# Altium footprint library volume_knob.PcbLib: 19 footprints (part 1 of 2)
Each footprint in its own frame and in the unit in brackets; x right, y up, seen from the top. Pads: shape width x height; smd on the part's side, far side on the other; paste and mask are expansions set on the pad; w line width, h text height; cw(c..) or ccw(c..) is an arc to the next point about the centre after c.
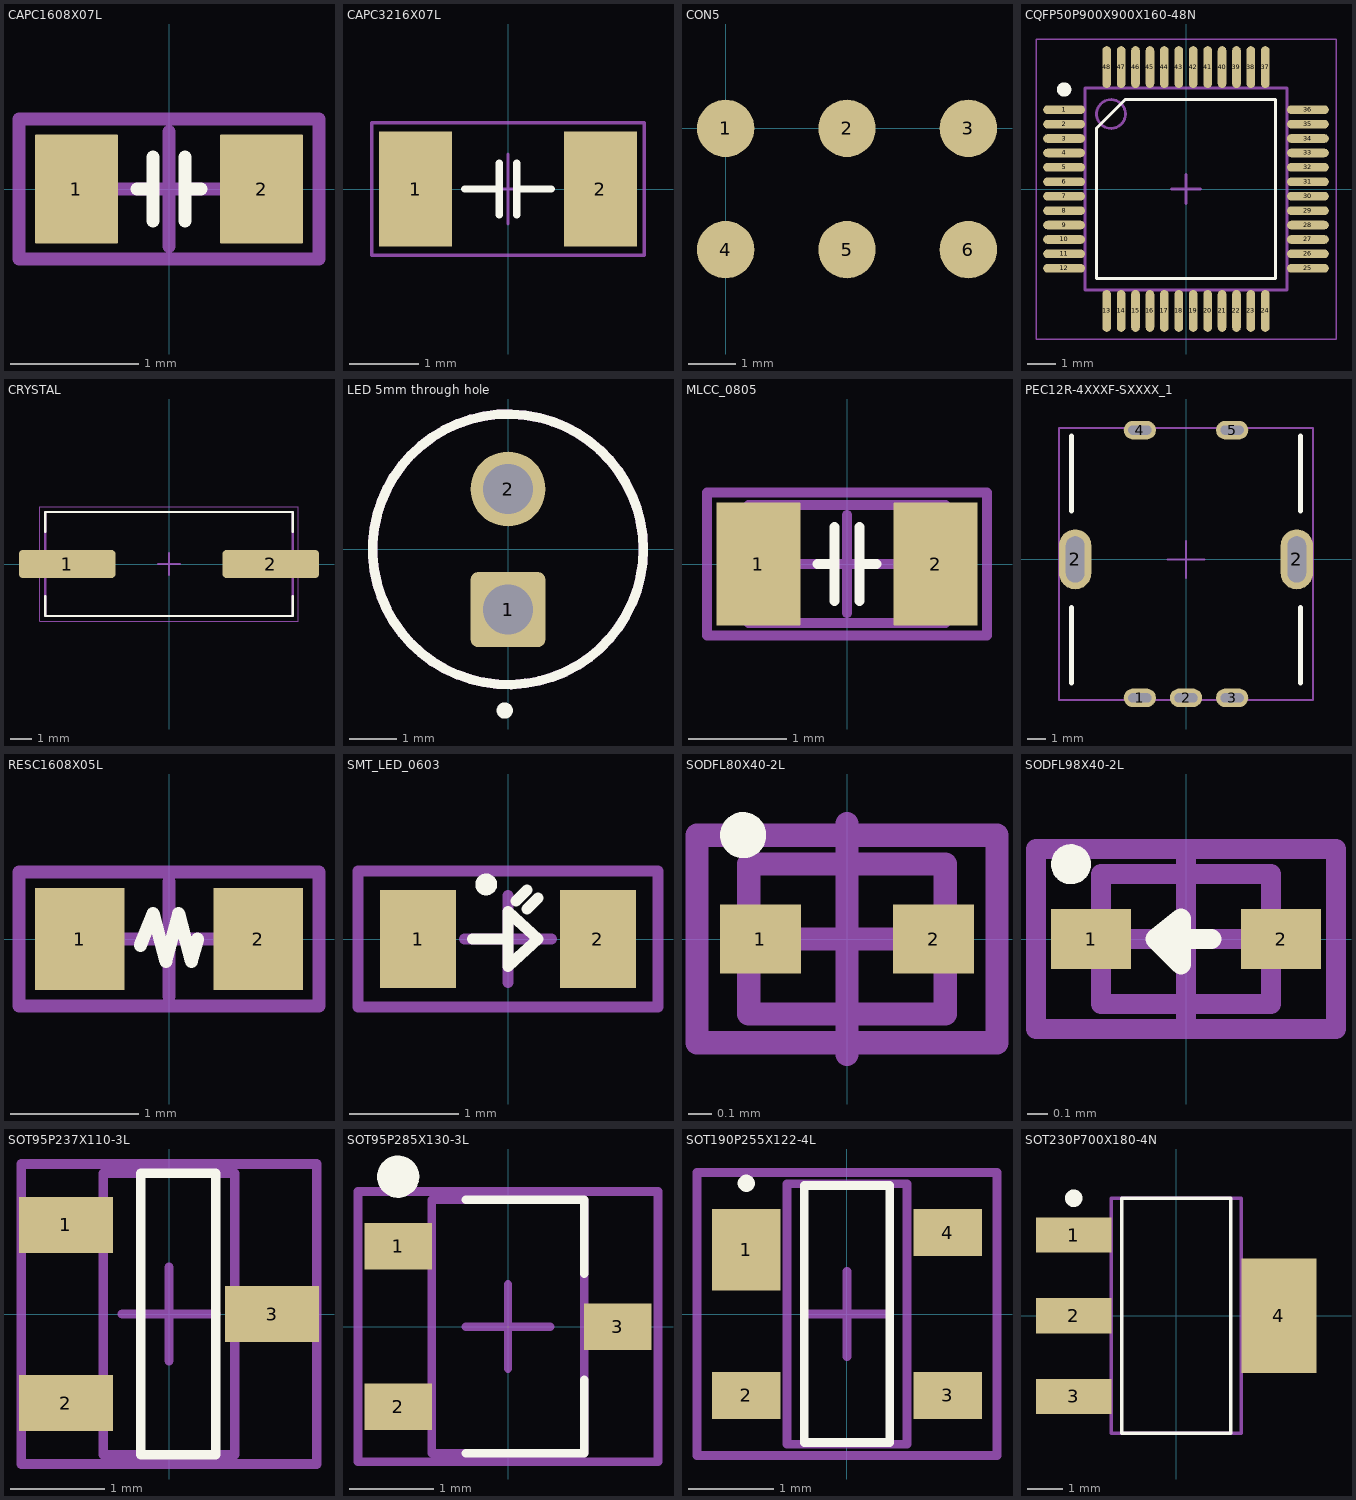
[diagram p0: the footprints below, top view; thin cyan lines are the x and y axes]

## CAPC1608X07L [mm] "MLCC 0603"
height 0.7
pads (2):
  rrect1% 0.65x0.85 smd: 1(-0.725,0) 2(0.725,0)
Top Overlay:
  lines w0.102: -0.25,0 -0.125,0 ; -0.125,-0.25 -0.125,0.25 ; 0.125,-0.25 0.125,0.25 ; 0.125,0 0.25,0
Top Courtyard:
  lines w0.102: -0.45,0 0.45,0 ; 0,-0.45 0,0.45 ; -1.175,-0.55 1.175,-0.55 1.175,0.55 -1.175,0.55 -1.175,-0.55
Top Assembly:
  lines w0.102: -1.175,-0.55 1.175,-0.55 1.175,0.55 -1.175,0.55 -1.175,-0.55
3D body "CAPC1608X07L.step": height 0.7, standoff 0, extent -0.85,-0.45 0.85,0.45

## CAPC3216X07L [mm] "MLCC 1206"
height 0.7
pads (2):
  rrect1% 1.05x1.65 smd: 1(-1.325,0) 2(1.325,0)
Top Overlay:
  lines w0.102: -0.625,0 -0.125,0 ; -0.125,-0.375 -0.125,0.375 ; 0.125,-0.375 0.125,0.375 ; 0.125,0 0.625,0
Top Courtyard:
  lines w0.05: -1.95,-0.95 -1.95,0.95 1.95,0.95 1.95,-0.95 -1.95,-0.95
Top Assembly:
  lines w0.05: -0.5,0 0.5,0 ; 0,-0.5 0,0.5 ; -1.95,-0.95 -1.95,0.95 1.95,0.95 1.95,-0.95 -1.95,-0.95
3D body "CAPC3216X07L.step": height 0.7, standoff 0, extent -1.65,-0.85 1.65,0.85

## CON5 [mm] "4 Pin 2.54 header"
pads (6):
  round 1.2 smd: 1(0,0) 2(2.54,0) 3(5.08,0) 4(0,-2.54) 5(2.54,-2.54) 6(5.08,-2.54)

## CQFP50P900X900X160-48N [mm] "QFP48"
height 1.6
pads (48):
  oval 1.45x0.3 smd mask+0.04: 1(-4.225,2.75) 2(-4.225,2.25) 3(-4.225,1.75) 4(-4.225,1.25) 5(-4.225,0.75) 6(-4.225,0.25) 7(-4.225,-0.25) 8(-4.225,-0.75) 9(-4.225,-1.25) 10(-4.225,-1.75) 11(-4.225,-2.25) 12(-4.225,-2.75) 25(4.225,-2.75) 26(4.225,-2.25) 27(4.225,-1.75) 28(4.225,-1.25) 29(4.225,-0.75) 30(4.225,-0.25) 31(4.225,0.25) 32(4.225,0.75) 33(4.225,1.25) 34(4.225,1.75) 35(4.225,2.25) 36(4.225,2.75)
  oval 0.3x1.45 smd mask+0.04: 13(-2.75,-4.225) 14(-2.25,-4.225) 15(-1.75,-4.225) 16(-1.25,-4.225) 17(-0.75,-4.225) 18(-0.25,-4.225) 19(0.25,-4.225) 20(0.75,-4.225) 21(1.25,-4.225) 22(1.75,-4.225) 23(2.25,-4.225) 24(2.75,-4.225) 37(2.75,4.225) 38(2.25,4.225) 39(1.75,4.225) 40(1.25,4.225) 41(0.75,4.225) 42(0.25,4.225) 43(-0.25,4.225) 44(-0.75,4.225) 45(-1.25,4.225) 46(-1.75,4.225) 47(-2.25,4.225) 48(-2.75,4.225)
Top Overlay:
  circle w0.25: c-4.225,3.45 r0.125
  lines w0.102: -3.1,-3.1 -3.1,2.107 -2.107,3.1 3.1,3.1 3.1,-3.1 -3.1,-3.1
Top Courtyard:
  circle w0.1: c-2.6,2.6 r0.5
  lines w0.1: -3.5,-3.5 -3.5,3.5 3.5,3.5 3.5,-3.5 -3.5,-3.5
Top Assembly:
  lines w0.05: -5.2,-5.2 -5.2,5.2 5.2,5.2 5.2,-5.2 -5.2,-5.2
  lines w0.1: -0.5,0 0.5,0 ; 0,-0.5 0,0.5
3D body "CQFP50P900X900X160-48N.step": height 1.45, standoff 0, extent -4.6,-4.6 4.6,4.6

## CRYSTAL [mm] "SMT Crystal 4.70x11.40mm Pitch 8.80mm"
height 4.2
pads (2):
  rrect25% 4.5x1.3 smd: 1(-4.75,0) 2(4.75,0)
Top Overlay:
  lines w0.102: -5.775,-1.5 -5.775,-2.425 5.775,-2.425 5.775,-1.5 ; -5.775,1.5 -5.775,2.425 5.775,2.425 5.775,1.5
Top Courtyard:
  lines w0.1: -5.775,-2.425 5.775,-2.425 5.775,2.425 -5.775,2.425 -5.775,-2.425
Top Assembly:
  lines w0.05: -6.025,-2.675 6.025,-2.675 6.025,2.675 -6.025,2.675 -6.025,-2.675
  lines w0.1: -0.5,0 0.5,0 ; 0,-0.5 0,0.5
3D body "HC49US SMT Crystal.STEP": height 4.2, standoff 0, extent -6.35,-2.35 6.35,2.35

## LED 5mm through hole [mm] "5MM through hole LED"
pads (2):
  rrect20% 1.58x1.58 hole 1.05: 1(0,-1.27)
  round 1.58 hole 1.05: 2(0,1.27)
Top Overlay:
  circle w0.2: c-0.071,-3.397 r0.072
  circle w0.2: c0,0 r2.85
Mechanical 15:
  circle w0.2: c0,0 r2.85
3D body "LED 5mm.step": height 8.9, standoff -3.59, extent -3,-2.5 3,3

## MLCC_0805 [mm] "MLCC 0805"
height 0.8
pads (2):
  rrect1% 0.85x1.25 smd: 1(-0.9,0) 2(0.9,0)
Top Overlay:
  lines w0.102: -0.3,0 -0.125,0 ; -0.125,-0.375 -0.125,0.375 ; 0.125,-0.375 0.125,0.375 ; 0.125,0 0.3,0
Top Courtyard:
  lines w0.1: -0.5,0 0.5,0 ; 0,-0.5 0,0.5
  lines w0.102: -1.425,-0.725 1.425,-0.725 1.425,0.725 -1.425,0.725 -1.425,-0.725
Top Assembly:
  lines w0.102: -1,-0.6 1,-0.6 1,0.6 -1,0.6 -1,-0.6
3D body "MLCC_0805.step": height 0.8, standoff 0, extent -1,-0.6 1,0.6

## PEC12R-4XXXF-SXXXX_1 [mm] "Rotary encoder"
pads (7):
  oval 1.75x1 hole 0.5 slot 1.25 at 0 deg: 1(-2.5,-7.5) 2(0,-7.5) 3(2.5,-7.5) 4(-2.5,7) 5(2.5,7)
  rrect100% 1.75x3.25 hole 1 slot 2.5 at 90 deg: 2(-6,0)
  oval 1.75x3.25 hole 1 slot 2.5 at 90 deg: 2(6,0)
Top Overlay:
  lines w0.254: -6.2,-6.7 -6.2,-2.6 ; -6.2,2.6 -6.2,6.7 ; 6.2,-6.7 6.2,-2.6 ; 6.2,2.6 6.2,6.7
Top Courtyard:
  lines w0.102: -6.875,-7.625 -6.875,7.125 6.875,7.125 6.875,-7.625 -6.875,-7.625
Top Assembly:
  lines w0.102: -1,0 1,0 ; 0,-1 0,1 ; -6.875,-7.625 6.875,-7.625 6.875,7.125 -6.875,7.125 -6.875,-7.625
3D body "pec11r-4220k_l13-8_w12-4_h26-5.stp": height 26.5, standoff -3.7, extent -6.924,-7.675 6.924,7.175

## RESC1608X05L [mm] "0603 SMT Resistor"
height 0.5
pads (2):
  rrect1% 0.7x0.8 smd: 1(-0.7,0) 2(0.7,0)
Top Overlay:
  lines w0.102: -0.225,-0.05 -0.125,0.2 -0.025,-0.175 0.075,0.2 0.175,-0.175 0.225,0
Top Courtyard:
  lines w0.102: -0.45,0 0.45,0 ; 0,-0.45 0,0.45 ; -1.175,-0.525 -1.175,0.525 1.175,0.525 1.175,-0.525 -1.175,-0.525
Top Assembly:
  lines w0.102: -1.175,-0.525 1.175,-0.525 1.175,0.525 -1.175,0.525 -1.175,-0.525
3D body "RESC1608X05L.step": height 0.5, standoff 0, extent -0.85,-0.45 0.85,0.45

## SMT_LED_0603 [mm] "SMT LED 0603"
height 2
pads (2):
  rrect1% 0.7x0.9 smd: 1(-0.825,0) 2(0.825,0)
Top Overlay:
  circle w0.1: c-0.2,0.5 r0.05
  lines w0.102: -0.325,0 0,0 ; 0.075,0.35 0.175,0.45 ; 0.175,0.275 0.275,0.375 ; 0,0 0,-0.25 0.275,0 0,0.25 0,0
Top Courtyard:
  lines w0.102: -1.375,-0.625 1.375,-0.625 1.375,0.625 -1.375,0.625 -1.375,-0.625
Top Assembly:
  lines w0.102: -0.4,0 0.4,0 ; 0,-0.4 0,0.4 ; -1.375,-0.625 1.375,-0.625 1.375,0.625 -1.375,0.625 -1.375,-0.625
3D body "scaled.step": height 0.26, standoff 0.01, extent -0.767,-0.379 0.739,0.377

## SODFL80X40-2L [mm] "SODFL, 2-Leads, Body 0.60x0.80mm, IPC High Density"
height 0.4
pads (2):
  rrect1% 0.35x0.3 smd mask+0.05: 1(-0.375,0) 2(0.375,0)
Top Overlay:
  circle w0.1: c-0.45,0.45 r0.05
Top Courtyard:
  lines w0.1: -0.5,0 0.5,0 ; 0,-0.5 0,0.5
  lines w0.102: -0.65,-0.45 -0.65,0.45 0.65,0.45 0.65,-0.45 -0.65,-0.45
Top Assembly:
  lines w0.102: -0.425,-0.325 -0.425,0.325 0.425,0.325 0.425,-0.325 -0.425,-0.325
3D body "SODFL80X40-2L.step": height 0.4, standoff 0, extent -0.425,-0.325 0.425,0.325

## SODFL98X40-2L [mm] "SODFL, 0.6x1.0mm"
height 0.4
pads (2):
  rrect1% 0.4x0.3 smd: 1(-0.475,0) 2(0.475,0)
Top Overlay:
  circle w0.1: c-0.575,0.374 r0.05
  lines w0.102: 0.127,0 -0.152,0 ; -0.152,0 -0.025,-0.127 -0.025,0.102 -0.152,0
Top Courtyard:
  lines w0.102: -0.5,0 0.5,0 ; 0,-0.45 0,0.45 ; -0.75,-0.45 -0.75,0.45 0.75,0.45 0.75,-0.45 -0.75,-0.45
Top Assembly:
  lines w0.102: -0.425,-0.325 -0.425,0.325 0.425,0.325 0.425,-0.325 -0.425,-0.325
3D body "SODFL98X40-2L.step": height 0.4, standoff 0, extent -0.487,-0.325 0.487,0.325

## SOT95P237X110-3L [mm] "SOT23x3 2.90x2.37mm Pitch 0.95mm"
height 1.1
pads (3):
  rrect1% 1x0.6 smd: 1(-1.1,0.95) 2(-1.1,-0.95) 3(1.1,0)
Top Overlay:
  lines w0.102: -0.3,-1.5 -0.3,1.5 0.5,1.5 0.5,-1.5 -0.3,-1.5
Top Courtyard:
  lines w0.1: -0.5,0 0.5,0 ; 0,-0.5 0,0.5
  lines w0.102: -1.575,-1.6 -1.575,1.6 1.575,1.6 1.575,-1.6 -1.575,-1.6
Top Assembly:
  lines w0.1: -0.7,-1.5 -0.7,1.5 0.7,1.5 0.7,-1.5 -0.7,-1.5
3D body "SOT95P237X110-3L.step": height 1.1, standoff 0, extent -1.32,-1.5 1.32,1.5

## SOT95P285X130-3L [mm] "SOT23, 2.85x2.85mm, Pitch 0.95mm"
height 1.3
pads (3):
  rrect1% 0.8x0.55 smd: 1(-1.3,0.95) 2(-1.3,-0.95) 3(1.3,0)
Top Overlay:
  circle w0.25: c-1.3,1.775 r0.125
  lines w0.102: -0.5,-1.5 0.9,-1.5 0.9,-0.626 ; -0.5,1.5 0.9,1.5 0.9,0.626
Top Courtyard:
  lines w0.1: -0.5,0 0.5,0 ; 0,-0.5 0,0.5
  lines w0.102: -1.775,-1.6 1.775,-1.6 1.775,1.6 -1.775,1.6 -1.775,-1.6
Top Assembly:
  lines w0.102: -0.9,-1.5 0.9,-1.5 0.9,1.5 -0.9,1.5 -0.9,-1.5
3D body "SOT95P285X130-3L.step": height 1.3, standoff 0, extent -1.5,-1.5 1.5,1.5

## SOT190P255X122-4L [mm] "SOT143, 4-Leads, Body 2.92x2.55mm, Pitch 1.90mm, IPC High Density"
height 1.22
pads (4):
  rrect1% 0.8x0.95 smd mask+0.05: 1(-1.175,0.75)
  rrect1% 0.8x0.55 smd mask+0.05: 2(-1.175,-0.95) 3(1.175,-0.95) 4(1.175,0.95)
Top Overlay:
  circle w0.1: c-1.175,1.525 r0.05
  lines w0.102: -0.5,-1.5 -0.5,1.5 0.5,1.5 0.5,-1.5 -0.5,-1.5
Top Courtyard:
  lines w0.1: -0.5,0 0.5,0 ; 0,-0.5 0,0.5
  lines w0.102: -1.75,-1.65 1.75,-1.65 1.75,1.65 -1.75,1.65 -1.75,-1.65
Top Assembly:
  lines w0.102: -0.7,-1.52 0.7,-1.52 0.7,1.52 -0.7,1.52 -0.7,-1.52
3D body "SOT190P255X122-4L.step": height 1.22, standoff 0.02, extent -1.265,-1.52 1.265,1.52

## SOT230P700X180-4N [mm] "SOT223/4 6.5x7mm 2.3mm pitch"
height 1.8
pads (4):
  rrect1% 2.15x1 smd: 1(-2.925,2.3) 2(-2.925,0) 3(-2.925,-2.3)
  rrect1% 2.15x3.25 smd: 4(2.925,0)
Top Overlay:
  circle w0.25: c-2.925,3.35 r0.125
  lines w0.102: -1.55,-3.35 1.55,-3.35 1.55,3.35 -1.55,3.35 -1.55,-3.35
Top Assembly:
  lines w0.1: -1.85,-3.35 -1.85,3.35 1.85,3.35 1.85,-3.35 -1.85,-3.35
3D body "SOT230P700X180-4N.step": height 1.8, standoff 0, extent -3.5,-3.35 3.5,3.35